# Altium integrated library ZXMP10A13FTA.IntLib: 1 symbol
Pins are listed as number, name and electrical type; pins without a type are passive.

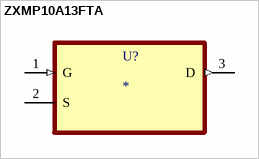
[diagram p0: symbol ZXMP10A13FTA]

## ZXMP10A13FTA
designator U?
P-Channel 100 V 600mA (Ta) 625mW (Ta) Surface Mount SOT-23-3; MP: ZXMP10A13FTA; MF: Diodes Inc.; Purchase-URL: https://pricing.snapeda.com/search/part/ZXMP10A13FTA/?ref=eda; Package: SOT-23-3 Diodes Inc.; SnapEDA_Link: https://www.snapeda.com/parts/ZXMP10A13FTA/Diodes+Inc./view-part/?ref=snap; Availability: In Stock; Value: *; Check_prices: https://www.snapeda.com/parts/ZXMP10A13FTA/Diodes+Inc./view-part/?ref=eda; Price: None
footprint SOT95P230X110-3N
pins: 1 G (in), 2 S, 3 D (out)